# Altium footprint library PCB - CAPACITOR - ALUMINIUM - CAP TH ALPOLY D10.00mm S5.00mm H12.50mm.PCBLIB: 1 footprints
Each footprint in its own frame and in the unit in brackets; x right, y up, seen from the top. Pads: shape width x height; smd on the part's side, far side on the other; paste and mask are expansions set on the pad; w line width, h text height; cw(c..) or ccw(c..) is an arc to the next point about the centre after c.
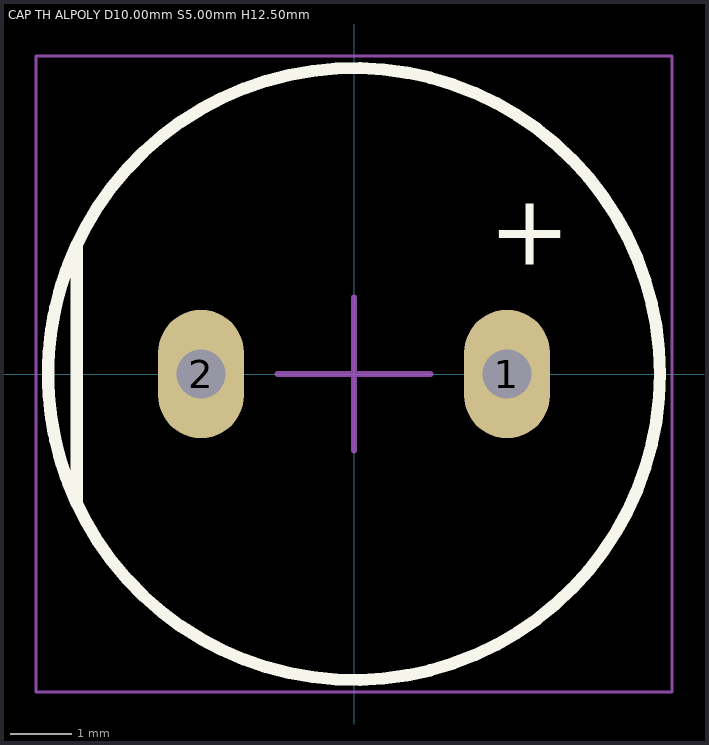
[diagram p0: the footprint, top view; thin cyan lines are the x and y axes]

## CAP TH ALPOLY D10.00mm S5.00mm H12.50mm [mm] "10.00mm Diameter 12.50mm Lead Spacing Aluminum - Polymer Capacitors Radial, Can"
height 12.5
pads (2):
  oval 1.4x2.1 hole 0.8: 1(2.5,0) 2(-2.5,0)
Top Overlay:
  circle w0.2: c0,0 r5
  lines w0.2: -4.532,-2.113 cw(c0,0) -4.532,2.113 -4.532,-2.113
  text "+" at 2.2,1.4 h2
Mechanical 13:
  circle w0.1: c0,0 r5
  lines w0.1: -4.532,-2.113 -4.532,2.113
Mechanical 15:
  lines w0.05: -5.2,-5.2 5.2,-5.2 5.2,5.2 -5.2,5.2 -5.2,-5.2
  lines w0.1: -1.25,0 0,0 ; 0,-1.25 0,0 ; 0,1.25 0,0 ; 1.25,0 0,0